# Altium integrated library Maxim Video Switch.IntLib: 41 symbols
Pins are listed as number, name and electrical type; pins without a type are passive.

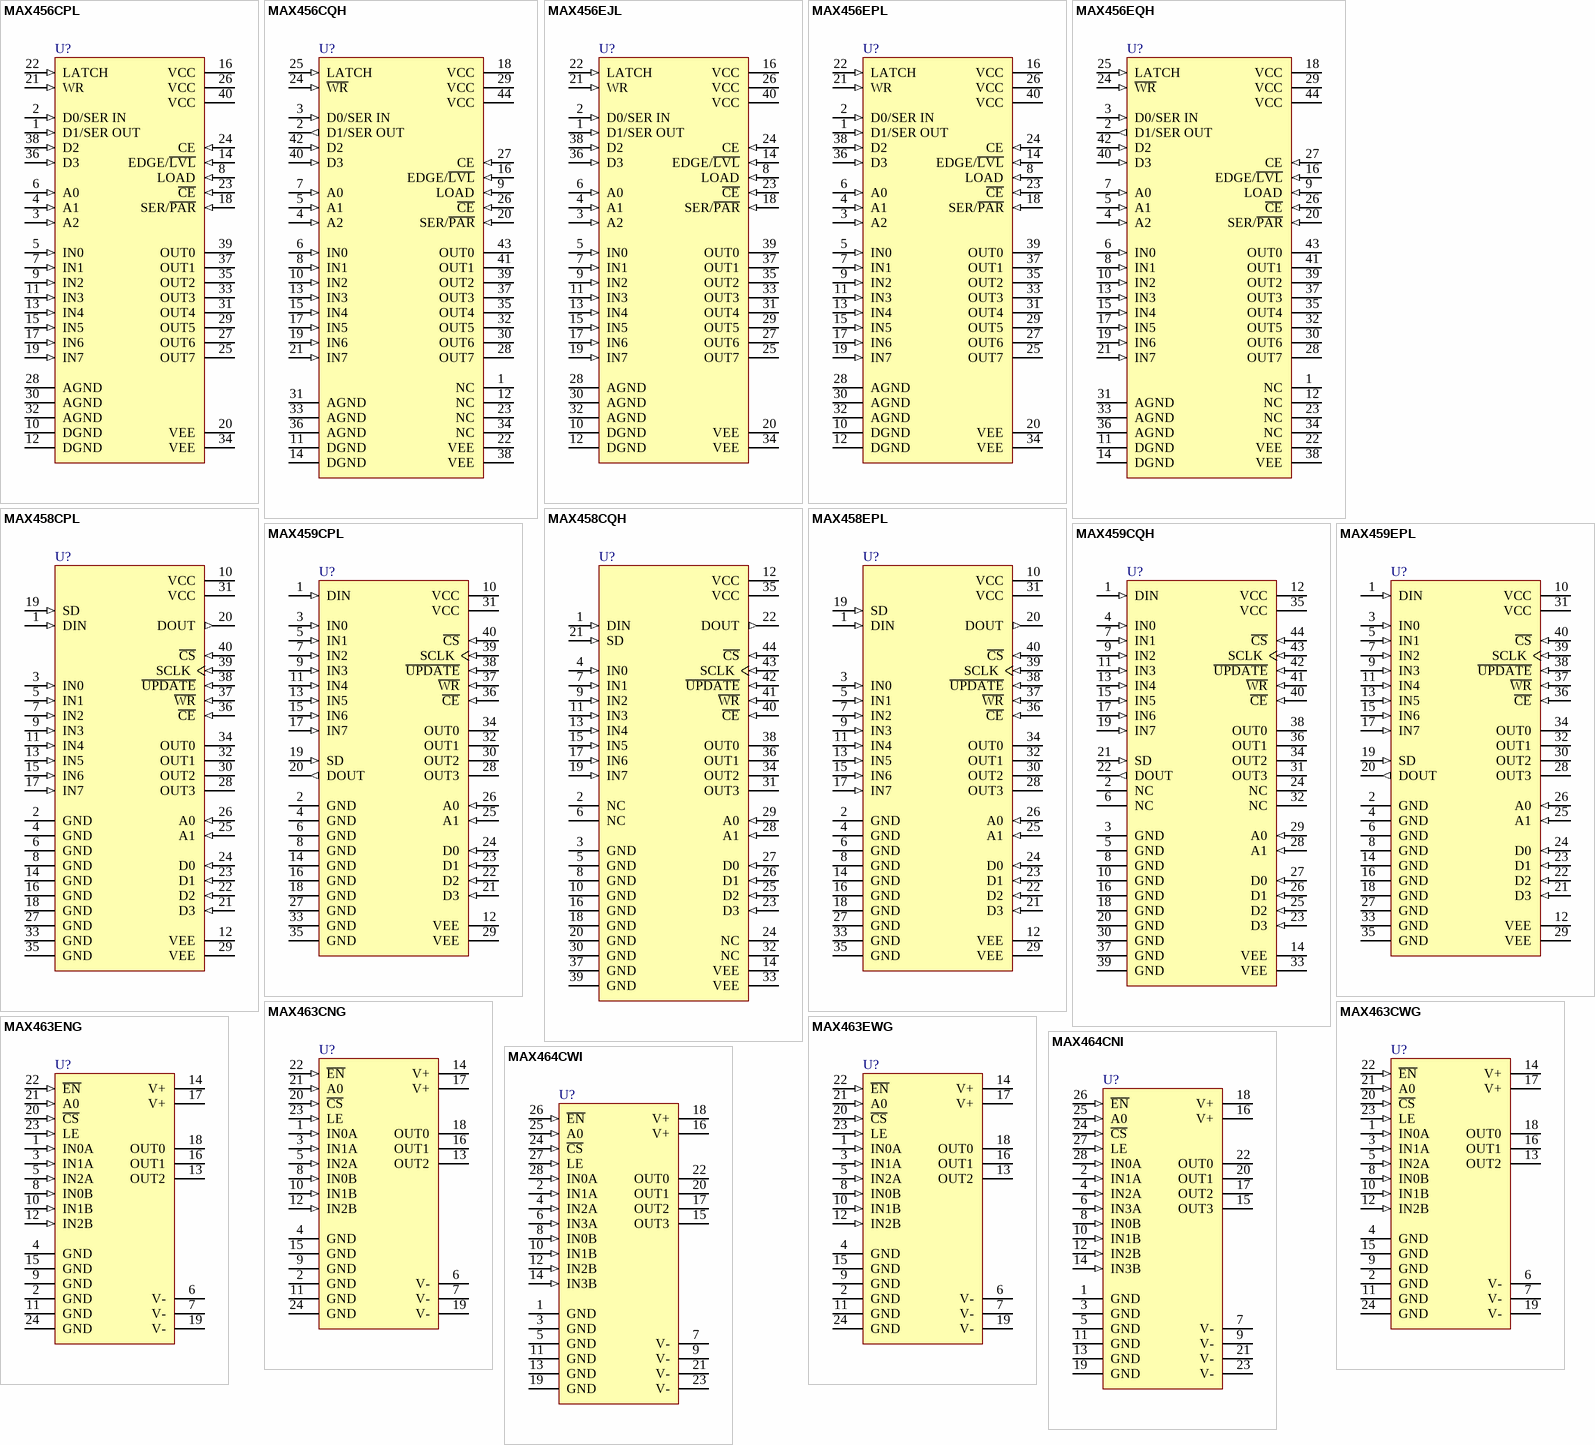
[diagram p0: symbols MAX456CPL to MAX464CWI]

## MAX456CPL
designator U?
8x8 Video Crosspoint Switch; Published: 16-Jan-2001; LatestRevisionDate: 29-May-2009; LatestRevisionNote: Component Body Added.; DatasheetVersion: Feb-1994; PackageVersion: RevA, 21-0044; PackageReference: PL40; Publisher: Altium Limited; PackageDescription: DIP, 40-Pin, Row Spacing 15.24 mm, Pitch 2.54 mm; ComponentLink1Description: Manufacturer Link; ComponentLink1URL: http://www.maxim-ic.com/; ComponentLink2Description: Datasheet; ComponentLink2URL: http://pdfserv.maxim-ic.com/en/ds/MAX456.pdf
footprint PL40 (DIP, 40-Leads, Row Spacing 15.24mm, Pitch 2.54mm, Body 52.08x13.98mm)
3D model PL40 (DIP, 40-Pin, Row Spacing 15.24 mm, Pitch 2.54 mm)
pins: 1 D1/SER OUT (in), 2 D0/SER IN (in), 3 A2 (in), 4 A1 (in), 5 IN0 (in), 6 A0 (in), 7 IN1 (in), 8 LOAD (in), 9 IN2 (in), 10 DGND (power), 11 IN3 (in), 12 DGND (power), 13 IN4 (in), 14 EDGE/~{LVL} (in), 15 IN5 (in), 16 VCC (power), 17 IN6 (in), 18 SER/~{PAR} (in), 19 IN7 (in), 20 VEE (power), 21 WR (in), 22 LATCH (in), 23 ~{CE} (in), 24 CE (in), 25 OUT7 (hiz), 26 VCC (power), 27 OUT6 (hiz), 28 AGND (power), 29 OUT5 (hiz), 30 AGND (power), 31 OUT4 (hiz), 32 AGND (power), 33 OUT3 (hiz), 34 VEE (power), 35 OUT2 (hiz), 36 D3 (in), 37 OUT1 (hiz), 38 D2 (in), 39 OUT0 (hiz), 40 VCC (power)

## MAX456CQH
designator U?
8x8 Video Crosspoint Switch; Published: 16-Jan-2001; LatestRevisionDate: 13-Apr-2006; LatestRevisionNote: IPC-7351 Footprint Added.; DatasheetVersion: Feb-1994; PackageReference: PLCC44; Publisher: Altium Limited; PackageDescription: 44-Pin Leaded Chip Carrier 1.27 mm Pitch; Code_IPC: PLCC-44; ComponentLink1Description: Manufacturer Link; ComponentLink1URL: http://www.maxim-ic.com/; ComponentLink2Description: Datasheet; ComponentLink2URL: http://pdfserv.maxim-ic.com/en/ds/MAX456.pdf
footprint PLCC44_N (Leaded Chip Carrier, 44-Leads, Body 16.6x16.6mm, Pitch 1.27mm, IPC Medium Density)
footprint PLCC44_L (Leaded Chip Carrier, 44-Leads, Body 16.6x16.6mm, Pitch 1.27mm, IPC High Density)
footprint PLCC44_M (Leaded Chip Carrier, 44-Leads, Body 16.6x16.6mm, Pitch 1.27mm, IPC Low Density)
3D model MAX456-PLCC44 (44-Pin Leaded Chip Carrier 1.27 mm Pitch)
pins: 1 NC, 2 D1/SER OUT (out), 3 D0/SER IN (in), 4 A2 (in), 5 A1 (in), 6 IN0 (in), 7 A0 (in), 8 IN1 (in), 9 LOAD (in), 10 IN2 (in), 11 DGND (power), 12 NC, 13 IN3 (in), 14 DGND (power), 15 IN4 (in), 16 EDGE/~{LVL} (in), 17 IN5 (in), 18 VCC (power), 19 IN6 (in), 20 SER/~{PAR} (in), 21 IN7 (in), 22 VEE (power), 23 NC, 24 ~{WR} (in), 25 LATCH (in), 26 ~{CE} (in), 27 CE (in), 28 OUT7 (hiz), 29 VCC (power), 30 OUT6 (hiz), 31 AGND (power), 32 OUT5 (hiz), 33 AGND (power), 34 NC, 35 OUT4 (hiz), 36 AGND (power), 37 OUT3 (hiz), 38 VEE (power), 39 OUT2 (hiz), 40 D3 (in), 41 OUT1 (hiz), 42 D2 (in), 43 OUT0 (hiz), 44 VCC (power)

## MAX456EJL
designator U?
8x8 Video Crosspoint Switch; Published: 16-Jan-2001; LatestRevisionDate: 29-May-2009; LatestRevisionNote: Component Body Added.; DatasheetVersion: Feb-1994; PackageReference: JL40A; Publisher: Altium Limited; PackageDescription: DIP, 40-Pin, Row Spacing 15.24 mm, Pitch 2.54 mm; Code_JEDEC: MS-011-AC; ComponentLink1Description: Manufacturer Link; ComponentLink1URL: http://www.maxim-ic.com/; ComponentLink2Description: Datasheet; ComponentLink2URL: http://pdfserv.maxim-ic.com/en/ds/MAX456.pdf
footprint JL40A (DIP, 40-Leads, Row Spacing 15.24mm, Pitch 2.54mm, Body 52.28x14.35mm)
3D model JL40A (DIP, 40-Pin, Row Spacing 15.24 mm, Pitch 2.54 mm)
pins: 1 D1/SER OUT (in), 2 D0/SER IN (in), 3 A2 (in), 4 A1 (in), 5 IN0 (in), 6 A0 (in), 7 IN1 (in), 8 LOAD (in), 9 IN2 (in), 10 DGND (power), 11 IN3 (in), 12 DGND (power), 13 IN4 (in), 14 EDGE/~{LVL} (in), 15 IN5 (in), 16 VCC (power), 17 IN6 (in), 18 SER/~{PAR} (in), 19 IN7 (in), 20 VEE (power), 21 WR (in), 22 LATCH (in), 23 ~{CE} (in), 24 CE (in), 25 OUT7 (hiz), 26 VCC (power), 27 OUT6 (hiz), 28 AGND (power), 29 OUT5 (hiz), 30 AGND (power), 31 OUT4 (hiz), 32 AGND (power), 33 OUT3 (hiz), 34 VEE (power), 35 OUT2 (hiz), 36 D3 (in), 37 OUT1 (hiz), 38 D2 (in), 39 OUT0 (hiz), 40 VCC (power)

## MAX456EPL
designator U?
8x8 Video Crosspoint Switch; Published: 16-Jan-2001; LatestRevisionDate: 29-May-2009; LatestRevisionNote: Component Body Added.; DatasheetVersion: Feb-1994; PackageVersion: RevA, 21-0044; PackageReference: PL40; Publisher: Altium Limited; PackageDescription: DIP, 40-Pin, Row Spacing 15.24 mm, Pitch 2.54 mm; ComponentLink1Description: Manufacturer Link; ComponentLink1URL: http://www.maxim-ic.com/; ComponentLink2Description: Datasheet; ComponentLink2URL: http://pdfserv.maxim-ic.com/en/ds/MAX456.pdf
footprint PL40 (DIP, 40-Leads, Row Spacing 15.24mm, Pitch 2.54mm, Body 52.08x13.98mm)
3D model PL40 (DIP, 40-Pin, Row Spacing 15.24 mm, Pitch 2.54 mm)
pins: 1 D1/SER OUT (in), 2 D0/SER IN (in), 3 A2 (in), 4 A1 (in), 5 IN0 (in), 6 A0 (in), 7 IN1 (in), 8 LOAD (in), 9 IN2 (in), 10 DGND (power), 11 IN3 (in), 12 DGND (power), 13 IN4 (in), 14 EDGE/~{LVL} (in), 15 IN5 (in), 16 VCC (power), 17 IN6 (in), 18 SER/~{PAR} (in), 19 IN7 (in), 20 VEE (power), 21 WR (in), 22 LATCH (in), 23 ~{CE} (in), 24 CE (in), 25 OUT7 (hiz), 26 VCC (power), 27 OUT6 (hiz), 28 AGND (power), 29 OUT5 (hiz), 30 AGND (power), 31 OUT4 (hiz), 32 AGND (power), 33 OUT3 (hiz), 34 VEE (power), 35 OUT2 (hiz), 36 D3 (in), 37 OUT1 (hiz), 38 D2 (in), 39 OUT0 (hiz), 40 VCC (power)

## MAX456EQH
designator U?
8x8 Video Crosspoint Switch; Published: 16-Jan-2001; LatestRevisionDate: 13-Apr-2006; LatestRevisionNote: IPC-7351 Footprint Added.; DatasheetVersion: Feb-1994; PackageReference: PLCC44; Publisher: Altium Limited; PackageDescription: 44-Pin Leaded Chip Carrier 1.27 mm Pitch; Code_IPC: PLCC-44; ComponentLink1Description: Manufacturer Link; ComponentLink1URL: http://www.maxim-ic.com/; ComponentLink2Description: Datasheet; ComponentLink2URL: http://pdfserv.maxim-ic.com/en/ds/MAX456.pdf
footprint PLCC44_N (Leaded Chip Carrier, 44-Leads, Body 16.6x16.6mm, Pitch 1.27mm, IPC Medium Density)
footprint PLCC44_L (Leaded Chip Carrier, 44-Leads, Body 16.6x16.6mm, Pitch 1.27mm, IPC High Density)
footprint PLCC44_M (Leaded Chip Carrier, 44-Leads, Body 16.6x16.6mm, Pitch 1.27mm, IPC Low Density)
3D model MAX456-PLCC44 (44-Pin Leaded Chip Carrier 1.27 mm Pitch)
pins: 1 NC, 2 D1/SER OUT (out), 3 D0/SER IN (in), 4 A2 (in), 5 A1 (in), 6 IN0 (in), 7 A0 (in), 8 IN1 (in), 9 LOAD (in), 10 IN2 (in), 11 DGND (power), 12 NC, 13 IN3 (in), 14 DGND (power), 15 IN4 (in), 16 EDGE/~{LVL} (in), 17 IN5 (in), 18 VCC (power), 19 IN6 (in), 20 SER/~{PAR} (in), 21 IN7 (in), 22 VEE (power), 23 NC, 24 ~{WR} (in), 25 LATCH (in), 26 ~{CE} (in), 27 CE (in), 28 OUT7 (hiz), 29 VCC (power), 30 OUT6 (hiz), 31 AGND (power), 32 OUT5 (hiz), 33 AGND (power), 34 NC, 35 OUT4 (hiz), 36 AGND (power), 37 OUT3 (hiz), 38 VEE (power), 39 OUT2 (hiz), 40 D3 (in), 41 OUT1 (hiz), 42 D2 (in), 43 OUT0 (hiz), 44 VCC (power)

## MAX458CPL
designator U?
8x4 Video Crosspoint Switch with Buffers; Published: 16-Jan-2001; LatestRevisionDate: 29-May-2009; LatestRevisionNote: Component Body Added.; DatasheetVersion: Apr-1995; PackageVersion: RevA, 21-0044; PackageReference: PL40; Publisher: Altium Limited; PackageDescription: DIP, 40-Pin, Row Spacing 15.24 mm, Pitch 2.54 mm; ComponentLink1Description: Manufacturer Link; ComponentLink1URL: http://www.maxim-ic.com/; ComponentLink2Description: Datasheet; ComponentLink2URL: http://pdfserv.maxim-ic.com/en/ds/MAX458-MAX459.pdf
footprint PL40 (DIP, 40-Leads, Row Spacing 15.24mm, Pitch 2.54mm, Body 52.08x13.98mm)
3D model PL40 (DIP, 40-Pin, Row Spacing 15.24 mm, Pitch 2.54 mm)
pins: 1 DIN (in), 2 GND (power), 3 IN0 (in), 4 GND (power), 5 IN1 (in), 6 GND (power), 7 IN2 (in), 8 GND (power), 9 IN3 (in), 10 VCC (power), 11 IN4 (in), 12 VEE (power), 13 IN5 (in), 14 GND (power), 15 IN6 (in), 16 GND (power), 17 IN7 (in), 18 GND (power), 19 SD (in), 20 DOUT (out), 21 D3 (in), 22 D2 (in), 23 D1 (in), 24 D0 (in), 25 A1 (in), 26 A0 (in), 27 GND (power), 28 OUT3 (hiz), 29 VEE (power), 30 OUT2 (hiz), 31 VCC (power), 32 OUT1 (hiz), 33 GND (power), 34 OUT0 (hiz), 35 GND (power), 36 ~{CE} (in), 37 ~{WR} (in), 38 ~{UPDATE} (in), 39 SCLK (in), 40 ~{CS} (in)

## MAX458CQH
designator U?
8x4 Video Crosspoint Switch with Buffers; Published: 16-Jan-2001; LatestRevisionDate: 13-Apr-2006; LatestRevisionNote: IPC-7351 Footprint Added.; DatasheetVersion: Apr-1995; PackageReference: PLCC44; Publisher: Altium Limited; PackageDescription: 44-Pin Leaded Chip Carrier 1.27 mm Pitch; Code_IPC: PLCC-44; ComponentLink1Description: Manufacturer Link; ComponentLink1URL: http://www.maxim-ic.com/; ComponentLink2Description: Datasheet; ComponentLink2URL: http://pdfserv.maxim-ic.com/en/ds/MAX458-MAX459.pdf
footprint PLCC44_N (Leaded Chip Carrier, 44-Leads, Body 16.6x16.6mm, Pitch 1.27mm, IPC Medium Density)
footprint PLCC44_L (Leaded Chip Carrier, 44-Leads, Body 16.6x16.6mm, Pitch 1.27mm, IPC High Density)
footprint PLCC44_M (Leaded Chip Carrier, 44-Leads, Body 16.6x16.6mm, Pitch 1.27mm, IPC Low Density)
3D model MAX458-PLCC44 (44-Pin Leaded Chip Carrier 1.27 mm Pitch)
pins: 1 DIN (in), 2 NC, 3 GND (power), 4 IN0 (in), 5 GND (power), 6 NC, 7 IN1 (in), 8 GND (power), 9 IN2 (in), 10 GND (power), 11 IN3 (in), 12 VCC (power), 13 IN4 (in), 14 VEE (power), 15 IN5 (in), 16 GND (power), 17 IN6 (in), 18 GND (power), 19 IN7 (in), 20 GND (power), 21 SD (in), 22 DOUT (out), 23 D3 (in), 24 NC, 25 D2 (in), 26 D1 (in), 27 D0 (in), 28 A1 (in), 29 A0 (in), 30 GND (power), 31 OUT3 (hiz), 32 NC, 33 VEE (power), 34 OUT2 (hiz), 35 VCC (power), 36 OUT1 (hiz), 37 GND (power), 38 OUT0 (hiz), 39 GND (power), 40 ~{CE} (in), 41 ~{WR} (in), 42 ~{UPDATE} (in), 43 SCLK (in), 44 ~{CS} (in)

## MAX458EPL
designator U?
8x4 Video Crosspoint Switch with Buffers; Published: 16-Jan-2001; LatestRevisionDate: 29-May-2009; LatestRevisionNote: Component Body Added.; DatasheetVersion: Apr-1995; PackageVersion: RevA, 21-0044; PackageReference: PL40; Publisher: Altium Limited; PackageDescription: DIP, 40-Pin, Row Spacing 15.24 mm, Pitch 2.54 mm; ComponentLink1Description: Manufacturer Link; ComponentLink1URL: http://www.maxim-ic.com/; ComponentLink2Description: Datasheet; ComponentLink2URL: http://pdfserv.maxim-ic.com/en/ds/MAX458-MAX459.pdf
footprint PL40 (DIP, 40-Leads, Row Spacing 15.24mm, Pitch 2.54mm, Body 52.08x13.98mm)
3D model PL40 (DIP, 40-Pin, Row Spacing 15.24 mm, Pitch 2.54 mm)
pins: 1 DIN (in), 2 GND (power), 3 IN0 (in), 4 GND (power), 5 IN1 (in), 6 GND (power), 7 IN2 (in), 8 GND (power), 9 IN3 (in), 10 VCC (power), 11 IN4 (in), 12 VEE (power), 13 IN5 (in), 14 GND (power), 15 IN6 (in), 16 GND (power), 17 IN7 (in), 18 GND (power), 19 SD (in), 20 DOUT (out), 21 D3 (in), 22 D2 (in), 23 D1 (in), 24 D0 (in), 25 A1 (in), 26 A0 (in), 27 GND (power), 28 OUT3 (hiz), 29 VEE (power), 30 OUT2 (hiz), 31 VCC (power), 32 OUT1 (hiz), 33 GND (power), 34 OUT0 (hiz), 35 GND (power), 36 ~{CE} (in), 37 ~{WR} (in), 38 ~{UPDATE} (in), 39 SCLK (in), 40 ~{CS} (in)

## MAX459CPL
designator U?
8x4 Video Crosspoint Switch with Buffers; Published: 16-Jan-2001; LatestRevisionDate: 29-May-2009; LatestRevisionNote: Component Body Added.; DatasheetVersion: Apr-1995; PackageVersion: RevA, 21-0044; PackageReference: PL40; Publisher: Altium Limited; PackageDescription: DIP, 40-Pin, Row Spacing 15.24 mm, Pitch 2.54 mm; ComponentLink1Description: Manufacturer Link; ComponentLink1URL: http://www.maxim-ic.com/; ComponentLink2Description: Datasheet; ComponentLink2URL: http://pdfserv.maxim-ic.com/en/ds/MAX458-MAX459.pdf
footprint PL40 (DIP, 40-Leads, Row Spacing 15.24mm, Pitch 2.54mm, Body 52.08x13.98mm)
3D model PL40 (DIP, 40-Pin, Row Spacing 15.24 mm, Pitch 2.54 mm)
pins: 1 DIN (in), 2 GND (power), 3 IN0 (in), 4 GND (power), 5 IN1 (in), 6 GND (power), 7 IN2 (in), 8 GND (power), 9 IN3 (in), 10 VCC (power), 11 IN4 (in), 12 VEE (power), 13 IN5 (in), 14 GND (power), 15 IN6 (in), 16 GND (power), 17 IN7 (in), 18 GND (power), 19 SD (in), 20 DOUT (out), 21 D3 (in), 22 D2 (in), 23 D1 (in), 24 D0 (in), 25 A1 (in), 26 A0 (in), 27 GND (power), 28 OUT3 (hiz), 29 VEE (power), 30 OUT2 (hiz), 31 VCC (power), 32 OUT1 (hiz), 33 GND (power), 34 OUT0 (hiz), 35 GND (power), 36 ~{CE} (in), 37 ~{WR} (in), 38 ~{UPDATE} (in), 39 SCLK (in), 40 ~{CS} (in)

## MAX459CQH
designator U?
8x4 Video Crosspoint Switch with Buffers; Published: 16-Jan-2001; LatestRevisionDate: 13-Apr-2006; LatestRevisionNote: IPC-7351 Footprint Added.; DatasheetVersion: Apr-1995; PackageReference: PLCC44; Publisher: Altium Limited; PackageDescription: 44-Pin Leaded Chip Carrier 1.27 mm Pitch; Code_IPC: PLCC-44; ComponentLink1Description: Manufacturer Link; ComponentLink1URL: http://www.maxim-ic.com/; ComponentLink2Description: Datasheet; ComponentLink2URL: http://pdfserv.maxim-ic.com/en/ds/MAX458-MAX459.pdf
footprint PLCC44_N (Leaded Chip Carrier, 44-Leads, Body 16.6x16.6mm, Pitch 1.27mm, IPC Medium Density)
footprint PLCC44_L (Leaded Chip Carrier, 44-Leads, Body 16.6x16.6mm, Pitch 1.27mm, IPC High Density)
footprint PLCC44_M (Leaded Chip Carrier, 44-Leads, Body 16.6x16.6mm, Pitch 1.27mm, IPC Low Density)
3D model MAX459-PLCC44 (44-Pin Leaded Chip Carrier 1.27 mm Pitch)
pins: 1 DIN (in), 2 NC, 3 GND (power), 4 IN0 (in), 5 GND (power), 6 NC, 7 IN1 (in), 8 GND (power), 9 IN2 (in), 10 GND (power), 11 IN3 (in), 12 VCC (power), 13 IN4 (in), 14 VEE (power), 15 IN5 (in), 16 GND (power), 17 IN6 (in), 18 GND (power), 19 IN7 (in), 20 GND (power), 21 SD (in), 22 DOUT (out), 23 D3 (in), 24 NC, 25 D2 (in), 26 D1 (in), 27 D0 (in), 28 A1 (in), 29 A0 (in), 30 GND (power), 31 OUT3 (hiz), 32 NC, 33 VEE (power), 34 OUT2 (hiz), 35 VCC (power), 36 OUT1 (hiz), 37 GND (power), 38 OUT0 (hiz), 39 GND (power), 40 ~{CE} (in), 41 ~{WR} (in), 42 ~{UPDATE} (in), 43 SCLK (in), 44 ~{CS} (in)

## MAX459EPL
designator U?
8x4 Video Crosspoint Switch with Buffers; Published: 16-Jan-2001; LatestRevisionDate: 29-May-2009; LatestRevisionNote: Component Body Added.; DatasheetVersion: Apr-1995; PackageVersion: RevA, 21-0044; PackageReference: PL40; Publisher: Altium Limited; PackageDescription: DIP, 40-Pin, Row Spacing 15.24 mm, Pitch 2.54 mm; ComponentLink1Description: Manufacturer Link; ComponentLink1URL: http://www.maxim-ic.com/; ComponentLink2Description: Datasheet; ComponentLink2URL: http://pdfserv.maxim-ic.com/en/ds/MAX458-MAX459.pdf
footprint PL40 (DIP, 40-Leads, Row Spacing 15.24mm, Pitch 2.54mm, Body 52.08x13.98mm)
3D model PL40 (DIP, 40-Pin, Row Spacing 15.24 mm, Pitch 2.54 mm)
pins: 1 DIN (in), 2 GND (power), 3 IN0 (in), 4 GND (power), 5 IN1 (in), 6 GND (power), 7 IN2 (in), 8 GND (power), 9 IN3 (in), 10 VCC (power), 11 IN4 (in), 12 VEE (power), 13 IN5 (in), 14 GND (power), 15 IN6 (in), 16 GND (power), 17 IN7 (in), 18 GND (power), 19 SD (in), 20 DOUT (out), 21 D3 (in), 22 D2 (in), 23 D1 (in), 24 D0 (in), 25 A1 (in), 26 A0 (in), 27 GND (power), 28 OUT3 (hiz), 29 VEE (power), 30 OUT2 (hiz), 31 VCC (power), 32 OUT1 (hiz), 33 GND (power), 34 OUT0 (hiz), 35 GND (power), 36 ~{CE} (in), 37 ~{WR} (in), 38 ~{UPDATE} (in), 39 SCLK (in), 40 ~{CS} (in)

## MAX463CNG
designator U?
Two-Channel, Triple RGB Video Switch and Buffer; Published: 16-Jan-2001; LatestRevisionDate: 29-May-2009; LatestRevisionNote: Component Body Added.; DatasheetVersion: Jun-1994; PackageVersion: Aug-2000; PackageReference: NG24; Publisher: Altium Limited; PackageDescription: DIP, 24-Pin, Row Spacing 7.62 mm, Pitch 2.54 mm; Code_JEDEC: MS-001-AF; ComponentLink1Description: Manufacturer Link; ComponentLink1URL: http://www.maxim-ic.com/
footprint NG24 (DIP, 24-Leads, Row Spacing 7.62mm, Pitch 2.54mm, Body 30.55x7.24mm)
3D model NG24 (DIP, 24-Pin, Row Spacing 7.62 mm, Pitch 2.54 mm)
pins: 1 IN0A (in), 2 GND (power), 3 IN1A (in), 4 GND (power), 5 IN2A (in), 6 V- (power), 7 V- (power), 8 IN0B (in), 9 GND (power), 10 IN1B (in), 11 GND (power), 12 IN2B (in), 13 OUT2 (hiz), 14 V+ (power), 15 GND (power), 16 OUT1 (hiz), 17 V+ (power), 18 OUT0 (hiz), 19 V- (power), 20 ~{CS} (in), 21 A0 (in), 22 ~{EN} (in), 23 LE (in), 24 GND (power)

## MAX463CWG
designator U?
Two-Channel, Triple RGB Video Switch and Buffer; Published: 16-Jan-2001; LatestRevisionDate: 13-Apr-2006; LatestRevisionNote: IPC-7351 Footprint Added.; DatasheetVersion: Jun-1994; PackageReference: WSO24; Publisher: Altium Limited; PackageDescription: 24-Pin Small Outline Integrated Circuit 1.27 mm Pitch; ComponentLink1Description: Manufacturer Link; ComponentLink1URL: http://www.maxim-ic.com/
footprint WSO24_N (SOIC, 24-Leads, Body 15.4x7.5mm, Pitch 1.27mm, IPC Medium Density)
footprint WSO24_L (SOIC, 24-Leads, Body 15.4x7.5mm, Pitch 1.27mm, IPC High Density)
footprint WSO24_M (SOIC, 24-Leads, Body 15.4x7.5mm, Pitch 1.27mm, IPC Low Density)
3D model WSO24 (24-Pin Small Outline Integrated Circuit 1.27 mm Pitch)
pins: 1 IN0A (in), 2 GND (power), 3 IN1A (in), 4 GND (power), 5 IN2A (in), 6 V- (power), 7 V- (power), 8 IN0B (in), 9 GND (power), 10 IN1B (in), 11 GND (power), 12 IN2B (in), 13 OUT2 (hiz), 14 V+ (power), 15 GND (power), 16 OUT1 (hiz), 17 V+ (power), 18 OUT0 (hiz), 19 V- (power), 20 ~{CS} (in), 21 A0 (in), 22 ~{EN} (in), 23 LE (in), 24 GND (power)

## MAX463ENG
designator U?
Two-Channel, Triple RGB Video Switch and Buffer; Published: 16-Jan-2001; LatestRevisionDate: 29-May-2009; LatestRevisionNote: Component Body Added.; DatasheetVersion: Jun-1994; PackageVersion: Aug-2000; PackageReference: NG24; Publisher: Altium Limited; PackageDescription: DIP, 24-Pin, Row Spacing 7.62 mm, Pitch 2.54 mm; Code_JEDEC: MS-001-AF; ComponentLink1Description: Manufacturer Link; ComponentLink1URL: http://www.maxim-ic.com/
footprint NG24 (DIP, 24-Leads, Row Spacing 7.62mm, Pitch 2.54mm, Body 30.55x7.24mm)
3D model NG24 (DIP, 24-Pin, Row Spacing 7.62 mm, Pitch 2.54 mm)
pins: 1 IN0A (in), 2 GND (power), 3 IN1A (in), 4 GND (power), 5 IN2A (in), 6 V- (power), 7 V- (power), 8 IN0B (in), 9 GND (power), 10 IN1B (in), 11 GND (power), 12 IN2B (in), 13 OUT2 (hiz), 14 V+ (power), 15 GND (power), 16 OUT1 (hiz), 17 V+ (power), 18 OUT0 (hiz), 19 V- (power), 20 ~{CS} (in), 21 A0 (in), 22 ~{EN} (in), 23 LE (in), 24 GND (power)

## MAX463EWG
designator U?
Two-Channel, Triple RGB Video Switch and Buffer; Published: 16-Jan-2001; LatestRevisionDate: 13-Apr-2006; LatestRevisionNote: IPC-7351 Footprint Added.; DatasheetVersion: Jun-1994; PackageReference: WSO24; Publisher: Altium Limited; PackageDescription: 24-Pin Small Outline Integrated Circuit 1.27 mm Pitch; ComponentLink1Description: Manufacturer Link; ComponentLink1URL: http://www.maxim-ic.com/
footprint WSO24_N (SOIC, 24-Leads, Body 15.4x7.5mm, Pitch 1.27mm, IPC Medium Density)
footprint WSO24_L (SOIC, 24-Leads, Body 15.4x7.5mm, Pitch 1.27mm, IPC High Density)
footprint WSO24_M (SOIC, 24-Leads, Body 15.4x7.5mm, Pitch 1.27mm, IPC Low Density)
3D model WSO24 (24-Pin Small Outline Integrated Circuit 1.27 mm Pitch)
pins: 1 IN0A (in), 2 GND (power), 3 IN1A (in), 4 GND (power), 5 IN2A (in), 6 V- (power), 7 V- (power), 8 IN0B (in), 9 GND (power), 10 IN1B (in), 11 GND (power), 12 IN2B (in), 13 OUT2 (hiz), 14 V+ (power), 15 GND (power), 16 OUT1 (hiz), 17 V+ (power), 18 OUT0 (hiz), 19 V- (power), 20 ~{CS} (in), 21 A0 (in), 22 ~{EN} (in), 23 LE (in), 24 GND (power)

## MAX464CNI
designator U?
Two-Channel, Quad RGB Video Switch and Buffer; Published: 16-Jan-2001; LatestRevisionDate: 29-May-2009; LatestRevisionNote: Component Body Added.; DatasheetVersion: Jun-1994; PackageVersion: Aug-2000; PackageReference: NI28; Publisher: Altium Limited; PackageDescription: DIP, 28-Pin, Row Spacing 7.62 mm, Pitch 2.54 mm; ComponentLink1Description: Manufacturer Link; ComponentLink1URL: http://www.maxim-ic.com/
footprint NI28 (DIP, 28-Leads, Row Spacing 7.62mm, Pitch 2.54mm, Body 34.8x7.24mm)
3D model NI28 (DIP, 28-Pin, Row Spacing 7.62 mm, Pitch 2.54 mm)
pins: 1 GND (power), 2 IN1A (in), 3 GND (power), 4 IN2A (in), 5 GND (power), 6 IN3A (in), 7 V- (power), 8 IN0B (in), 9 V- (power), 10 IN1B (in), 11 GND (power), 12 IN2B (in), 13 GND (power), 14 IN3B (in), 15 OUT3 (hiz), 16 V+ (power), 17 OUT2 (hiz), 18 V+ (power), 19 GND (power), 20 OUT1 (hiz), 21 V- (power), 22 OUT0 (hiz), 23 V- (power), 24 ~{CS} (in), 25 A0 (in), 26 ~{EN} (in), 27 LE (in), 28 IN0A (in)

## MAX464CWI
designator U?
Two-Channel, Quad RGB Video Switch and Buffer; Published: 16-Jan-2001; LatestRevisionDate: 13-Apr-2006; LatestRevisionNote: IPC-7351 Footprint Added.; DatasheetVersion: Jun-1994; PackageReference: WSO28; Publisher: Altium Limited; PackageDescription: 28-Pin Small Outline Integrated Circuit 1.27 mm Pitch; ComponentLink1Description: Manufacturer Link; ComponentLink1URL: http://www.maxim-ic.com/
footprint WSO28_N (SOIC, 28-Leads, Body 17.9x7.5mm, Pitch 1.27mm, IPC Medium Density)
footprint WSO28_L (SOIC, 28-Leads, Body 17.9x7.5mm, Pitch 1.27mm, IPC High Density)
footprint WSO28_M (SOIC, 28-Leads, Body 17.9x7.5mm, Pitch 1.27mm, IPC Low Density)
3D model WSO28 (28-Pin Small Outline Integrated Circuit 1.27 mm Pitch)
pins: 1 GND (power), 2 IN1A (in), 3 GND (power), 4 IN2A (in), 5 GND (power), 6 IN3A (in), 7 V- (power), 8 IN0B (in), 9 V- (power), 10 IN1B (in), 11 GND (power), 12 IN2B (in), 13 GND (power), 14 IN3B (in), 15 OUT3 (hiz), 16 V+ (power), 17 OUT2 (hiz), 18 V+ (power), 19 GND (power), 20 OUT1 (hiz), 21 V- (power), 22 OUT0 (hiz), 23 V- (power), 24 ~{CS} (in), 25 A0 (in), 26 ~{EN} (in), 27 LE (in), 28 IN0A (in)

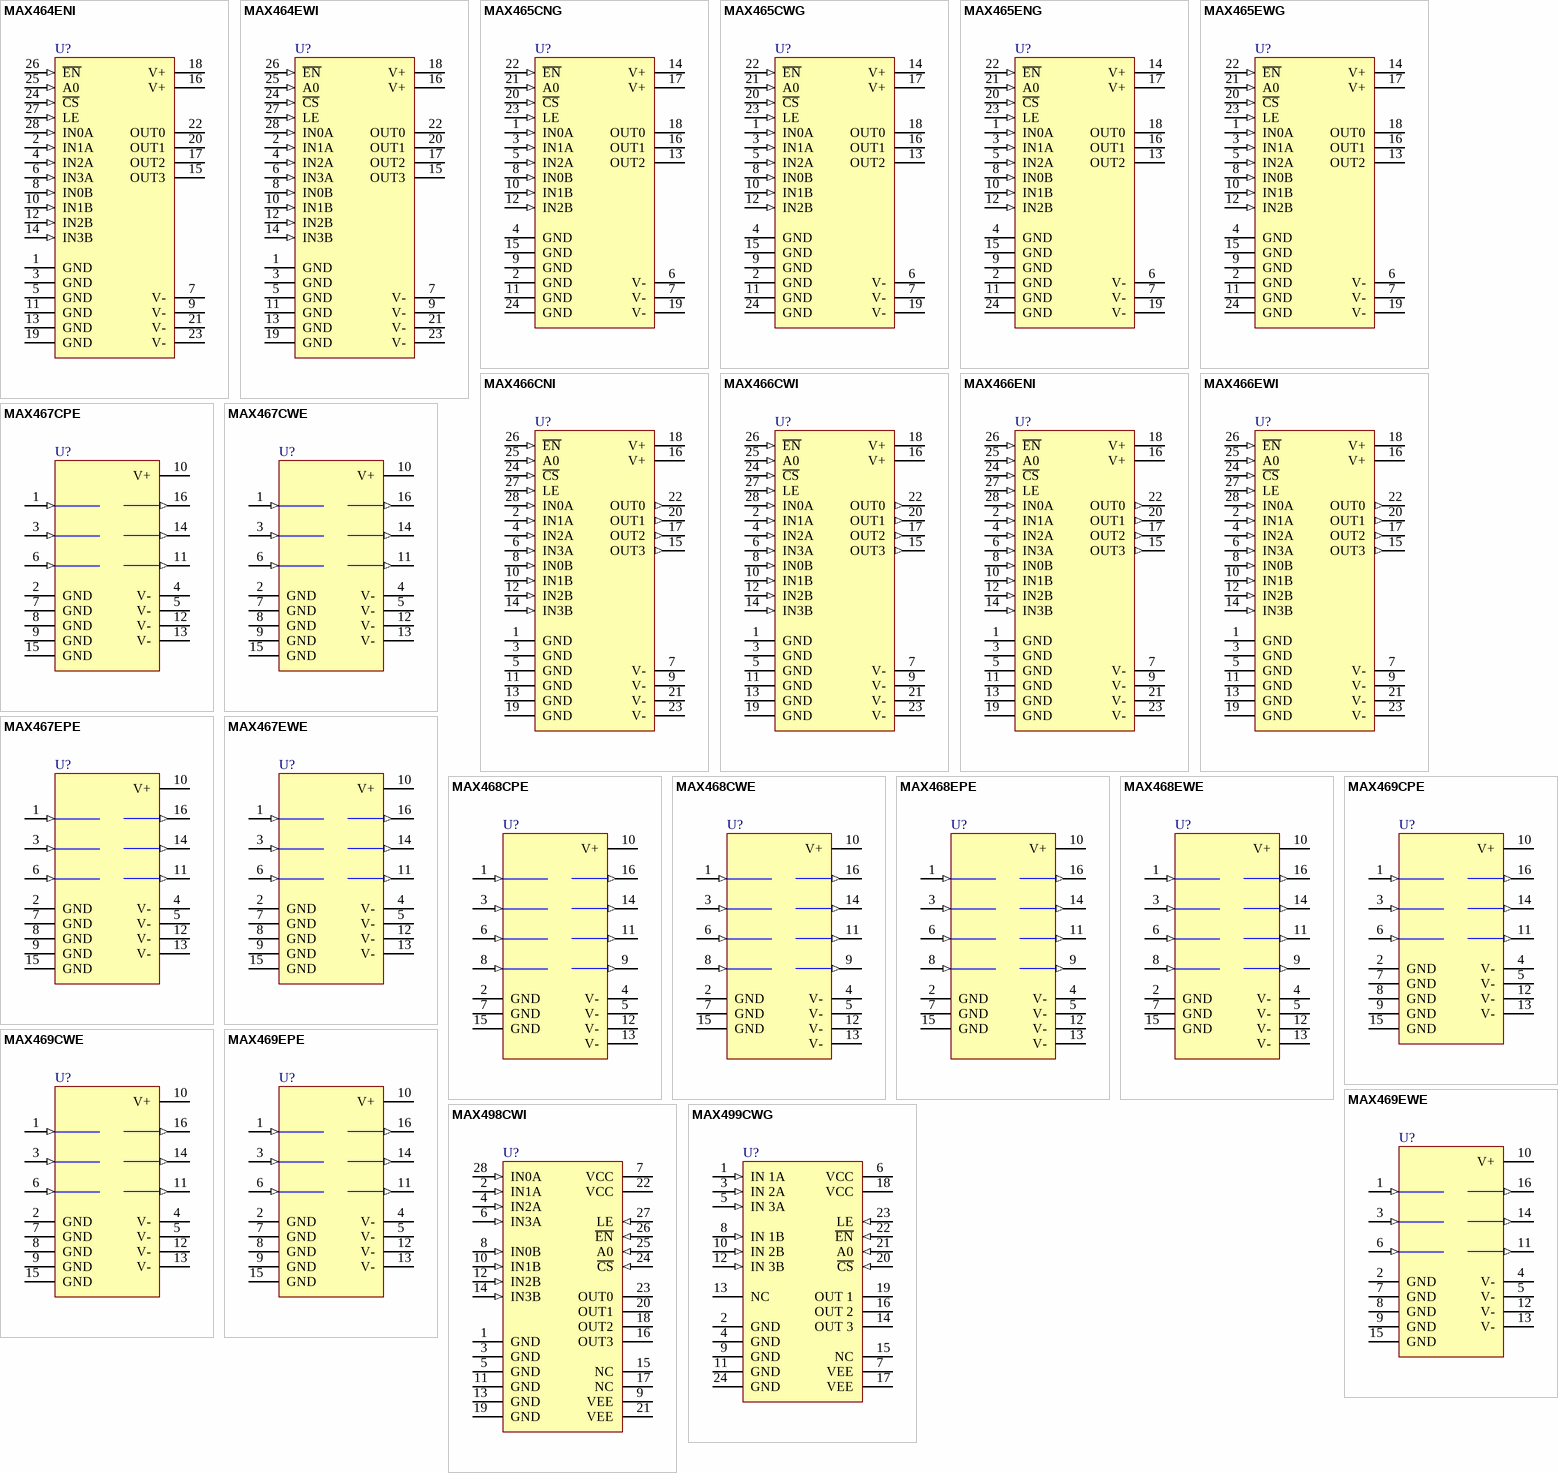
[diagram p1: symbols MAX464ENI to MAX499CWG]

## MAX464ENI
designator U?
Two-Channel, Quad RGB Video Switch and Buffer; Published: 16-Jan-2001; LatestRevisionDate: 29-May-2009; LatestRevisionNote: Component Body Added.; DatasheetVersion: Jun-1994; PackageVersion: Aug-2000; PackageReference: NI28; Publisher: Altium Limited; PackageDescription: DIP, 28-Pin, Row Spacing 7.62 mm, Pitch 2.54 mm; ComponentLink1Description: Manufacturer Link; ComponentLink1URL: http://www.maxim-ic.com/
footprint NI28 (DIP, 28-Leads, Row Spacing 7.62mm, Pitch 2.54mm, Body 34.8x7.24mm)
3D model NI28 (DIP, 28-Pin, Row Spacing 7.62 mm, Pitch 2.54 mm)
pins: 1 GND (power), 2 IN1A (in), 3 GND (power), 4 IN2A (in), 5 GND (power), 6 IN3A (in), 7 V- (power), 8 IN0B (in), 9 V- (power), 10 IN1B (in), 11 GND (power), 12 IN2B (in), 13 GND (power), 14 IN3B (in), 15 OUT3 (hiz), 16 V+ (power), 17 OUT2 (hiz), 18 V+ (power), 19 GND (power), 20 OUT1 (hiz), 21 V- (power), 22 OUT0 (hiz), 23 V- (power), 24 ~{CS} (in), 25 A0 (in), 26 ~{EN} (in), 27 LE (in), 28 IN0A (in)

## MAX464EWI
designator U?
Two-Channel, Quad RGB Video Switch and Buffer; Published: 16-Jan-2001; LatestRevisionDate: 13-Apr-2006; LatestRevisionNote: IPC-7351 Footprint Added.; DatasheetVersion: Jun-1994; PackageReference: WSO28; Publisher: Altium Limited; PackageDescription: 28-Pin Small Outline Integrated Circuit 1.27 mm Pitch; ComponentLink1Description: Manufacturer Link; ComponentLink1URL: http://www.maxim-ic.com/
footprint WSO28_N (SOIC, 28-Leads, Body 17.9x7.5mm, Pitch 1.27mm, IPC Medium Density)
footprint WSO28_L (SOIC, 28-Leads, Body 17.9x7.5mm, Pitch 1.27mm, IPC High Density)
footprint WSO28_M (SOIC, 28-Leads, Body 17.9x7.5mm, Pitch 1.27mm, IPC Low Density)
3D model WSO28 (28-Pin Small Outline Integrated Circuit 1.27 mm Pitch)
pins: 1 GND (power), 2 IN1A (in), 3 GND (power), 4 IN2A (in), 5 GND (power), 6 IN3A (in), 7 V- (power), 8 IN0B (in), 9 V- (power), 10 IN1B (in), 11 GND (power), 12 IN2B (in), 13 GND (power), 14 IN3B (in), 15 OUT3 (hiz), 16 V+ (power), 17 OUT2 (hiz), 18 V+ (power), 19 GND (power), 20 OUT1 (hiz), 21 V- (power), 22 OUT0 (hiz), 23 V- (power), 24 ~{CS} (in), 25 A0 (in), 26 ~{EN} (in), 27 LE (in), 28 IN0A (in)

## MAX465CNG
designator U?
Two-Channel, Triple RGB Video Switch and Buffer; Published: 16-Jan-2001; LatestRevisionDate: 29-May-2009; LatestRevisionNote: Component Body Added.; DatasheetVersion: Jun-1994; PackageVersion: Aug-2000; PackageReference: NG24; Publisher: Altium Limited; PackageDescription: DIP, 24-Pin, Row Spacing 7.62 mm, Pitch 2.54 mm; Code_JEDEC: MS-001-AF; ComponentLink1Description: Manufacturer Link; ComponentLink1URL: http://www.maxim-ic.com/
footprint NG24 (DIP, 24-Leads, Row Spacing 7.62mm, Pitch 2.54mm, Body 30.55x7.24mm)
3D model NG24 (DIP, 24-Pin, Row Spacing 7.62 mm, Pitch 2.54 mm)
pins: 1 IN0A (in), 2 GND (power), 3 IN1A (in), 4 GND (power), 5 IN2A (in), 6 V- (power), 7 V- (power), 8 IN0B (in), 9 GND (power), 10 IN1B (in), 11 GND (power), 12 IN2B (in), 13 OUT2 (hiz), 14 V+ (power), 15 GND (power), 16 OUT1 (hiz), 17 V+ (power), 18 OUT0 (hiz), 19 V- (power), 20 ~{CS} (in), 21 A0 (in), 22 ~{EN} (in), 23 LE (in), 24 GND (power)

## MAX465CWG
designator U?
Two-Channel, Triple RGB Video Switch and Buffer; Published: 16-Jan-2001; LatestRevisionDate: 13-Apr-2006; LatestRevisionNote: IPC-7351 Footprint Added.; DatasheetVersion: Jun-1994; PackageReference: WSO24; Publisher: Altium Limited; PackageDescription: 24-Pin Small Outline Integrated Circuit 1.27 mm Pitch; ComponentLink1Description: Manufacturer Link; ComponentLink1URL: http://www.maxim-ic.com/
footprint WSO24_N (SOIC, 24-Leads, Body 15.4x7.5mm, Pitch 1.27mm, IPC Medium Density)
footprint WSO24_L (SOIC, 24-Leads, Body 15.4x7.5mm, Pitch 1.27mm, IPC High Density)
footprint WSO24_M (SOIC, 24-Leads, Body 15.4x7.5mm, Pitch 1.27mm, IPC Low Density)
3D model WSO24 (24-Pin Small Outline Integrated Circuit 1.27 mm Pitch)
pins: 1 IN0A (in), 2 GND (power), 3 IN1A (in), 4 GND (power), 5 IN2A (in), 6 V- (power), 7 V- (power), 8 IN0B (in), 9 GND (power), 10 IN1B (in), 11 GND (power), 12 IN2B (in), 13 OUT2 (hiz), 14 V+ (power), 15 GND (power), 16 OUT1 (hiz), 17 V+ (power), 18 OUT0 (hiz), 19 V- (power), 20 ~{CS} (in), 21 A0 (in), 22 ~{EN} (in), 23 LE (in), 24 GND (power)

## MAX465ENG
designator U?
Two-Channel, Triple RGB Video Switch and Buffer; Published: 16-Jan-2001; LatestRevisionDate: 29-May-2009; LatestRevisionNote: Component Body Added.; DatasheetVersion: Jun-1994; PackageVersion: Aug-2000; PackageReference: NG24; Publisher: Altium Limited; PackageDescription: DIP, 24-Pin, Row Spacing 7.62 mm, Pitch 2.54 mm; Code_JEDEC: MS-001-AF; ComponentLink1Description: Manufacturer Link; ComponentLink1URL: http://www.maxim-ic.com/
footprint NG24 (DIP, 24-Leads, Row Spacing 7.62mm, Pitch 2.54mm, Body 30.55x7.24mm)
3D model NG24 (DIP, 24-Pin, Row Spacing 7.62 mm, Pitch 2.54 mm)
pins: 1 IN0A (in), 2 GND (power), 3 IN1A (in), 4 GND (power), 5 IN2A (in), 6 V- (power), 7 V- (power), 8 IN0B (in), 9 GND (power), 10 IN1B (in), 11 GND (power), 12 IN2B (in), 13 OUT2 (hiz), 14 V+ (power), 15 GND (power), 16 OUT1 (hiz), 17 V+ (power), 18 OUT0 (hiz), 19 V- (power), 20 ~{CS} (in), 21 A0 (in), 22 ~{EN} (in), 23 LE (in), 24 GND (power)

## MAX465EWG
designator U?
Two-Channel, Triple RGB Video Switch and Buffer; Published: 16-Jan-2001; LatestRevisionDate: 13-Apr-2006; LatestRevisionNote: IPC-7351 Footprint Added.; DatasheetVersion: Jun-1994; PackageReference: WSO24; Publisher: Altium Limited; PackageDescription: 24-Pin Small Outline Integrated Circuit 1.27 mm Pitch; ComponentLink1Description: Manufacturer Link; ComponentLink1URL: http://www.maxim-ic.com/
footprint WSO24_N (SOIC, 24-Leads, Body 15.4x7.5mm, Pitch 1.27mm, IPC Medium Density)
footprint WSO24_L (SOIC, 24-Leads, Body 15.4x7.5mm, Pitch 1.27mm, IPC High Density)
footprint WSO24_M (SOIC, 24-Leads, Body 15.4x7.5mm, Pitch 1.27mm, IPC Low Density)
3D model WSO24 (24-Pin Small Outline Integrated Circuit 1.27 mm Pitch)
pins: 1 IN0A (in), 2 GND (power), 3 IN1A (in), 4 GND (power), 5 IN2A (in), 6 V- (power), 7 V- (power), 8 IN0B (in), 9 GND (power), 10 IN1B (in), 11 GND (power), 12 IN2B (in), 13 OUT2 (hiz), 14 V+ (power), 15 GND (power), 16 OUT1 (hiz), 17 V+ (power), 18 OUT0 (hiz), 19 V- (power), 20 ~{CS} (in), 21 A0 (in), 22 ~{EN} (in), 23 LE (in), 24 GND (power)

## MAX466CNI
designator U?
Two-Channel, Quad RGB Video Switch and Buffer; Published: 16-Jan-2001; LatestRevisionDate: 29-May-2009; LatestRevisionNote: Component Body Added.; DatasheetVersion: Jun-1994; PackageVersion: Aug-2000; PackageReference: NI28; Publisher: Altium Limited; PackageDescription: DIP, 28-Pin, Row Spacing 7.62 mm, Pitch 2.54 mm; ComponentLink1Description: Manufacturer Link; ComponentLink1URL: http://www.maxim-ic.com/
footprint NI28 (DIP, 28-Leads, Row Spacing 7.62mm, Pitch 2.54mm, Body 34.8x7.24mm)
3D model NI28 (DIP, 28-Pin, Row Spacing 7.62 mm, Pitch 2.54 mm)
pins: 1 GND (power), 2 IN1A (in), 3 GND (power), 4 IN2A (in), 5 GND (power), 6 IN3A (in), 7 V- (power), 8 IN0B (in), 9 V- (power), 10 IN1B (in), 11 GND (power), 12 IN2B (in), 13 GND (power), 14 IN3B (in), 15 OUT3 (out), 16 V+ (power), 17 OUT2 (out), 18 V+ (power), 19 GND (power), 20 OUT1 (out), 21 V- (power), 22 OUT0 (out), 23 V- (power), 24 ~{CS} (in), 25 A0 (in), 26 ~{EN} (in), 27 LE (in), 28 IN0A (in)

## MAX466CWI
designator U?
Two-Channel, Quad RGB Video Switch and Buffer; Published: 16-Jan-2001; LatestRevisionDate: 13-Apr-2006; LatestRevisionNote: IPC-7351 Footprint Added.; DatasheetVersion: Jun-1994; PackageReference: WSO28; Publisher: Altium Limited; PackageDescription: 28-Pin Small Outline Integrated Circuit 1.27 mm Pitch; ComponentLink1Description: Manufacturer Link; ComponentLink1URL: http://www.maxim-ic.com/
footprint WSO28_N (SOIC, 28-Leads, Body 17.9x7.5mm, Pitch 1.27mm, IPC Medium Density)
footprint WSO28_L (SOIC, 28-Leads, Body 17.9x7.5mm, Pitch 1.27mm, IPC High Density)
footprint WSO28_M (SOIC, 28-Leads, Body 17.9x7.5mm, Pitch 1.27mm, IPC Low Density)
3D model WSO28 (28-Pin Small Outline Integrated Circuit 1.27 mm Pitch)
pins: 1 GND (power), 2 IN1A (in), 3 GND (power), 4 IN2A (in), 5 GND (power), 6 IN3A (in), 7 V- (power), 8 IN0B (in), 9 V- (power), 10 IN1B (in), 11 GND (power), 12 IN2B (in), 13 GND (power), 14 IN3B (in), 15 OUT3 (out), 16 V+ (power), 17 OUT2 (out), 18 V+ (power), 19 GND (power), 20 OUT1 (out), 21 V- (power), 22 OUT0 (out), 23 V- (power), 24 ~{CS} (in), 25 A0 (in), 26 ~{EN} (in), 27 LE (in), 28 IN0A (in)

## MAX466ENI
designator U?
Two-Channel, Quad RGB Video Switch and Buffer; Published: 16-Jan-2001; LatestRevisionDate: 29-May-2009; LatestRevisionNote: Component Body Added.; DatasheetVersion: Jun-1994; PackageVersion: Aug-2000; PackageReference: NI28; Publisher: Altium Limited; PackageDescription: DIP, 28-Pin, Row Spacing 7.62 mm, Pitch 2.54 mm; ComponentLink1Description: Manufacturer Link; ComponentLink1URL: http://www.maxim-ic.com/
footprint NI28 (DIP, 28-Leads, Row Spacing 7.62mm, Pitch 2.54mm, Body 34.8x7.24mm)
3D model NI28 (DIP, 28-Pin, Row Spacing 7.62 mm, Pitch 2.54 mm)
pins: 1 GND (power), 2 IN1A (in), 3 GND (power), 4 IN2A (in), 5 GND (power), 6 IN3A (in), 7 V- (power), 8 IN0B (in), 9 V- (power), 10 IN1B (in), 11 GND (power), 12 IN2B (in), 13 GND (power), 14 IN3B (in), 15 OUT3 (out), 16 V+ (power), 17 OUT2 (out), 18 V+ (power), 19 GND (power), 20 OUT1 (out), 21 V- (power), 22 OUT0 (out), 23 V- (power), 24 ~{CS} (in), 25 A0 (in), 26 ~{EN} (in), 27 LE (in), 28 IN0A (in)

## MAX466EWI
designator U?
Two-Channel, Quad RGB Video Switch and Buffer; Published: 16-Jan-2001; LatestRevisionDate: 13-Apr-2006; LatestRevisionNote: IPC-7351 Footprint Added.; DatasheetVersion: Jun-1994; PackageReference: WSO28; Publisher: Altium Limited; PackageDescription: 28-Pin Small Outline Integrated Circuit 1.27 mm Pitch; ComponentLink1Description: Manufacturer Link; ComponentLink1URL: http://www.maxim-ic.com/
footprint WSO28_N (SOIC, 28-Leads, Body 17.9x7.5mm, Pitch 1.27mm, IPC Medium Density)
footprint WSO28_L (SOIC, 28-Leads, Body 17.9x7.5mm, Pitch 1.27mm, IPC High Density)
footprint WSO28_M (SOIC, 28-Leads, Body 17.9x7.5mm, Pitch 1.27mm, IPC Low Density)
3D model WSO28 (28-Pin Small Outline Integrated Circuit 1.27 mm Pitch)
pins: 1 GND (power), 2 IN1A (in), 3 GND (power), 4 IN2A (in), 5 GND (power), 6 IN3A (in), 7 V- (power), 8 IN0B (in), 9 V- (power), 10 IN1B (in), 11 GND (power), 12 IN2B (in), 13 GND (power), 14 IN3B (in), 15 OUT3 (out), 16 V+ (power), 17 OUT2 (out), 18 V+ (power), 19 GND (power), 20 OUT1 (out), 21 V- (power), 22 OUT0 (out), 23 V- (power), 24 ~{CS} (in), 25 A0 (in), 26 ~{EN} (in), 27 LE (in), 28 IN0A (in)

## MAX467CPE
designator U?
Two-Channel, Triple Video Buffer; Published: 16-Jan-2001; LatestRevisionDate: 29-May-2009; LatestRevisionNote: Component Body Added.; DatasheetVersion: Jun-1994; PackageVersion: Aug-2000; PackageReference: PE16; Publisher: Altium Limited; PackageDescription: DIP, 16-Pin, Row Spacing 7.62 mm, Pitch 2.54 mm; Code_JEDEC: MS-001-BB; ComponentLink1Description: Manufacturer Link; ComponentLink1URL: http://www.maxim-ic.com/
footprint PE16 (DIP, 16-Leads, Row Spacing 7.62mm, Pitch 2.54mm, Body 19.18x7.24mm)
3D model PE16 (DIP, 16-Pin, Row Spacing 7.62 mm, Pitch 2.54 mm)
pins: 1 IN0 (in), 2 GND (power), 3 IN1 (in), 4 V- (power), 5 V- (power), 6 IN2 (in), 7 GND (power), 8 GND (power), 9 GND (power), 10 V+ (power), 11 OUT2 (out), 12 V- (power), 13 V- (power), 14 OUT1 (out), 15 GND (power), 16 OUT0 (out)

## MAX467CWE
designator U?
Two-Channel, Triple Video Buffer; Published: 16-Jan-2001; LatestRevisionDate: 13-Apr-2006; LatestRevisionNote: IPC-7351 Footprint Added.; DatasheetVersion: Jun-1994; PackageReference: WSO16; Publisher: Altium Limited; PackageDescription: 16-Pin Small Outline Integrated Circuit 1.27 mm Pitch; Code_JEDEC: MS-013-AA; Code_IPC: SOIC127P1030-16; ComponentLink1Description: Manufacturer Link; ComponentLink1URL: http://www.maxim-ic.com/
footprint WSO16_N (SOIC, 16-Leads, Body 10.3x7.5mm, Pitch 1.27mm, IPC Medium Density)
footprint WSO16_L (SOIC, 16-Leads, Body 10.3x7.5mm, Pitch 1.27mm, IPC High Density)
footprint WSO16_M (SOIC, 16-Leads, Body 10.3x7.5mm, Pitch 1.27mm, IPC Low Density)
3D model WSO16 (16-Pin Small Outline Integrated Circuit 1.27 mm Pitch)
pins: 1 IN0 (in), 2 GND (power), 3 IN1 (in), 4 V- (power), 5 V- (power), 6 IN2 (in), 7 GND (power), 8 GND (power), 9 GND (power), 10 V+ (power), 11 OUT2 (out), 12 V- (power), 13 V- (power), 14 OUT1 (out), 15 GND (power), 16 OUT0 (out)

## MAX467EPE
designator U?
Two-Channel, Triple Video Buffer; Published: 16-Jan-2001; LatestRevisionDate: 29-May-2009; LatestRevisionNote: Component Body Added.; DatasheetVersion: Jun-1994; PackageVersion: Aug-2000; PackageReference: PE16; Publisher: Altium Limited; PackageDescription: DIP, 16-Pin, Row Spacing 7.62 mm, Pitch 2.54 mm; Code_JEDEC: MS-001-BB; ComponentLink1Description: Manufacturer Link; ComponentLink1URL: http://www.maxim-ic.com/
footprint PE16 (DIP, 16-Leads, Row Spacing 7.62mm, Pitch 2.54mm, Body 19.18x7.24mm)
3D model PE16 (DIP, 16-Pin, Row Spacing 7.62 mm, Pitch 2.54 mm)
pins: 1 IN0 (in), 2 GND (power), 3 IN1 (in), 4 V- (power), 5 V- (power), 6 IN2 (in), 7 GND (power), 8 GND (power), 9 GND (power), 10 V+ (power), 11 OUT2 (out), 12 V- (power), 13 V- (power), 14 OUT1 (out), 15 GND (power), 16 OUT0 (out)

## MAX467EWE
designator U?
Two-Channel, Triple Video Buffer; Published: 16-Jan-2001; LatestRevisionDate: 13-Apr-2006; LatestRevisionNote: IPC-7351 Footprint Added.; DatasheetVersion: Jun-1994; PackageReference: WSO16; Publisher: Altium Limited; PackageDescription: 16-Pin Small Outline Integrated Circuit 1.27 mm Pitch; Code_JEDEC: MS-013-AA; Code_IPC: SOIC127P1030-16; ComponentLink1Description: Manufacturer Link; ComponentLink1URL: http://www.maxim-ic.com/
footprint WSO16_N (SOIC, 16-Leads, Body 10.3x7.5mm, Pitch 1.27mm, IPC Medium Density)
footprint WSO16_L (SOIC, 16-Leads, Body 10.3x7.5mm, Pitch 1.27mm, IPC High Density)
footprint WSO16_M (SOIC, 16-Leads, Body 10.3x7.5mm, Pitch 1.27mm, IPC Low Density)
3D model WSO16 (16-Pin Small Outline Integrated Circuit 1.27 mm Pitch)
pins: 1 IN0 (in), 2 GND (power), 3 IN1 (in), 4 V- (power), 5 V- (power), 6 IN2 (in), 7 GND (power), 8 GND (power), 9 GND (power), 10 V+ (power), 11 OUT2 (out), 12 V- (power), 13 V- (power), 14 OUT1 (out), 15 GND (power), 16 OUT0 (out)

## MAX468CPE
designator U?
Two-Channel, Quad Video Buffer; Published: 16-Jan-2001; LatestRevisionDate: 29-May-2009; LatestRevisionNote: Component Body Added.; DatasheetVersion: Jun-1994; PackageVersion: Aug-2000; PackageReference: PE16; Publisher: Altium Limited; PackageDescription: DIP, 16-Pin, Row Spacing 7.62 mm, Pitch 2.54 mm; Code_JEDEC: MS-001-BB; ComponentLink1Description: Manufacturer Link; ComponentLink1URL: http://www.maxim-ic.com/
footprint PE16 (DIP, 16-Leads, Row Spacing 7.62mm, Pitch 2.54mm, Body 19.18x7.24mm)
3D model PE16 (DIP, 16-Pin, Row Spacing 7.62 mm, Pitch 2.54 mm)
pins: 1 IN0 (in), 2 GND (power), 3 IN1 (in), 4 V- (power), 5 V- (power), 6 IN2 (in), 7 GND (power), 8 IN3 (in), 9 OUT3 (out), 10 V+ (power), 11 OUT2 (out), 12 V- (power), 13 V- (power), 14 OUT1 (out), 15 GND (power), 16 OUT0 (out)

## MAX468CWE
designator U?
Two-Channel, Quad Video Buffer; Published: 16-Jan-2001; LatestRevisionDate: 13-Apr-2006; LatestRevisionNote: IPC-7351 Footprint Added.; DatasheetVersion: Jun-1994; PackageReference: WSO16; Publisher: Altium Limited; PackageDescription: 16-Pin Small Outline Integrated Circuit 1.27 mm Pitch; Code_JEDEC: MS-013-AA; Code_IPC: SOIC127P1030-16; ComponentLink1Description: Manufacturer Link; ComponentLink1URL: http://www.maxim-ic.com/
footprint WSO16_N (SOIC, 16-Leads, Body 10.3x7.5mm, Pitch 1.27mm, IPC Medium Density)
footprint WSO16_L (SOIC, 16-Leads, Body 10.3x7.5mm, Pitch 1.27mm, IPC High Density)
footprint WSO16_M (SOIC, 16-Leads, Body 10.3x7.5mm, Pitch 1.27mm, IPC Low Density)
3D model WSO16 (16-Pin Small Outline Integrated Circuit 1.27 mm Pitch)
pins: 1 IN0 (in), 2 GND (power), 3 IN1 (in), 4 V- (power), 5 V- (power), 6 IN2 (in), 7 GND (power), 8 IN3 (in), 9 OUT3 (out), 10 V+ (power), 11 OUT2 (out), 12 V- (power), 13 V- (power), 14 OUT1 (out), 15 GND (power), 16 OUT0 (out)

## MAX468EPE
designator U?
Two-Channel, Quad Video Buffer; Published: 16-Jan-2001; LatestRevisionDate: 29-May-2009; LatestRevisionNote: Component Body Added.; DatasheetVersion: Jun-1994; PackageVersion: Aug-2000; PackageReference: PE16; Publisher: Altium Limited; PackageDescription: DIP, 16-Pin, Row Spacing 7.62 mm, Pitch 2.54 mm; Code_JEDEC: MS-001-BB; ComponentLink1Description: Manufacturer Link; ComponentLink1URL: http://www.maxim-ic.com/
footprint PE16 (DIP, 16-Leads, Row Spacing 7.62mm, Pitch 2.54mm, Body 19.18x7.24mm)
3D model PE16 (DIP, 16-Pin, Row Spacing 7.62 mm, Pitch 2.54 mm)
pins: 1 IN0 (in), 2 GND (power), 3 IN1 (in), 4 V- (power), 5 V- (power), 6 IN2 (in), 7 GND (power), 8 IN3 (in), 9 OUT3 (out), 10 V+ (power), 11 OUT2 (out), 12 V- (power), 13 V- (power), 14 OUT1 (out), 15 GND (power), 16 OUT0 (out)

## MAX468EWE
designator U?
Two-Channel, Quad Video Buffer; Published: 16-Jan-2001; LatestRevisionDate: 13-Apr-2006; LatestRevisionNote: IPC-7351 Footprint Added.; DatasheetVersion: Jun-1994; PackageReference: WSO16; Publisher: Altium Limited; PackageDescription: 16-Pin Small Outline Integrated Circuit 1.27 mm Pitch; Code_JEDEC: MS-013-AA; Code_IPC: SOIC127P1030-16; ComponentLink1Description: Manufacturer Link; ComponentLink1URL: http://www.maxim-ic.com/
footprint WSO16_N (SOIC, 16-Leads, Body 10.3x7.5mm, Pitch 1.27mm, IPC Medium Density)
footprint WSO16_L (SOIC, 16-Leads, Body 10.3x7.5mm, Pitch 1.27mm, IPC High Density)
footprint WSO16_M (SOIC, 16-Leads, Body 10.3x7.5mm, Pitch 1.27mm, IPC Low Density)
3D model WSO16 (16-Pin Small Outline Integrated Circuit 1.27 mm Pitch)
pins: 1 IN0 (in), 2 GND (power), 3 IN1 (in), 4 V- (power), 5 V- (power), 6 IN2 (in), 7 GND (power), 8 IN3 (in), 9 OUT3 (out), 10 V+ (power), 11 OUT2 (out), 12 V- (power), 13 V- (power), 14 OUT1 (out), 15 GND (power), 16 OUT0 (out)

## MAX469CPE
designator U?
Two-Channel, Triple Video Buffer; Published: 16-Jan-2001; LatestRevisionDate: 29-May-2009; LatestRevisionNote: Component Body Added.; DatasheetVersion: Jun-1994; PackageVersion: Aug-2000; PackageReference: PE16; Publisher: Altium Limited; PackageDescription: DIP, 16-Pin, Row Spacing 7.62 mm, Pitch 2.54 mm; Code_JEDEC: MS-001-BB; ComponentLink1Description: Manufacturer Link; ComponentLink1URL: http://www.maxim-ic.com/
footprint PE16 (DIP, 16-Leads, Row Spacing 7.62mm, Pitch 2.54mm, Body 19.18x7.24mm)
3D model PE16 (DIP, 16-Pin, Row Spacing 7.62 mm, Pitch 2.54 mm)
pins: 1 IN0 (in), 2 GND (power), 3 IN1 (in), 4 V- (power), 5 V- (power), 6 IN2 (in), 7 GND (power), 8 GND (power), 9 GND (power), 10 V+ (power), 11 OUT2 (out), 12 V- (power), 13 V- (power), 14 OUT1 (out), 15 GND (power), 16 OUT0 (out)

## MAX469CWE
designator U?
Two-Channel, Triple Video Buffer; Published: 16-Jan-2001; LatestRevisionDate: 13-Apr-2006; LatestRevisionNote: IPC-7351 Footprint Added.; DatasheetVersion: Jun-1994; PackageReference: WSO16; Publisher: Altium Limited; PackageDescription: 16-Pin Small Outline Integrated Circuit 1.27 mm Pitch; Code_JEDEC: MS-013-AA; Code_IPC: SOIC127P1030-16; ComponentLink1Description: Manufacturer Link; ComponentLink1URL: http://www.maxim-ic.com/
footprint WSO16_N (SOIC, 16-Leads, Body 10.3x7.5mm, Pitch 1.27mm, IPC Medium Density)
footprint WSO16_L (SOIC, 16-Leads, Body 10.3x7.5mm, Pitch 1.27mm, IPC High Density)
footprint WSO16_M (SOIC, 16-Leads, Body 10.3x7.5mm, Pitch 1.27mm, IPC Low Density)
3D model WSO16 (16-Pin Small Outline Integrated Circuit 1.27 mm Pitch)
pins: 1 IN0 (in), 2 GND (power), 3 IN1 (in), 4 V- (power), 5 V- (power), 6 IN2 (in), 7 GND (power), 8 GND (power), 9 GND (power), 10 V+ (power), 11 OUT2 (out), 12 V- (power), 13 V- (power), 14 OUT1 (out), 15 GND (power), 16 OUT0 (out)

## MAX469EPE
designator U?
Two-Channel, Triple Video Buffer; Published: 16-Jan-2001; LatestRevisionDate: 29-May-2009; LatestRevisionNote: Component Body Added.; DatasheetVersion: Jun-1994; PackageVersion: Aug-2000; PackageReference: PE16; Publisher: Altium Limited; PackageDescription: DIP, 16-Pin, Row Spacing 7.62 mm, Pitch 2.54 mm; Code_JEDEC: MS-001-BB; ComponentLink1Description: Manufacturer Link; ComponentLink1URL: http://www.maxim-ic.com/
footprint PE16 (DIP, 16-Leads, Row Spacing 7.62mm, Pitch 2.54mm, Body 19.18x7.24mm)
3D model PE16 (DIP, 16-Pin, Row Spacing 7.62 mm, Pitch 2.54 mm)
pins: 1 IN0 (in), 2 GND (power), 3 IN1 (in), 4 V- (power), 5 V- (power), 6 IN2 (in), 7 GND (power), 8 GND (power), 9 GND (power), 10 V+ (power), 11 OUT2 (out), 12 V- (power), 13 V- (power), 14 OUT1 (out), 15 GND (power), 16 OUT0 (out)

## MAX469EWE
designator U?
Two-Channel, Triple Video Buffer; Published: 16-Jan-2001; LatestRevisionDate: 13-Apr-2006; LatestRevisionNote: IPC-7351 Footprint Added.; DatasheetVersion: Jun-1994; PackageReference: WSO16; Publisher: Altium Limited; PackageDescription: 16-Pin Small Outline Integrated Circuit 1.27 mm Pitch; Code_JEDEC: MS-013-AA; Code_IPC: SOIC127P1030-16; ComponentLink1Description: Manufacturer Link; ComponentLink1URL: http://www.maxim-ic.com/
footprint WSO16_N (SOIC, 16-Leads, Body 10.3x7.5mm, Pitch 1.27mm, IPC Medium Density)
footprint WSO16_L (SOIC, 16-Leads, Body 10.3x7.5mm, Pitch 1.27mm, IPC High Density)
footprint WSO16_M (SOIC, 16-Leads, Body 10.3x7.5mm, Pitch 1.27mm, IPC Low Density)
3D model WSO16 (16-Pin Small Outline Integrated Circuit 1.27 mm Pitch)
pins: 1 IN0 (in), 2 GND (power), 3 IN1 (in), 4 V- (power), 5 V- (power), 6 IN2 (in), 7 GND (power), 8 GND (power), 9 GND (power), 10 V+ (power), 11 OUT2 (out), 12 V- (power), 13 V- (power), 14 OUT1 (out), 15 GND (power), 16 OUT0 (out)

## MAX498CWI
designator U?
Quad, SPDT, RGB Switch with 250MHz Video Buffer Amplifier; Published: 16-Jan-2001; LatestRevisionDate: 13-Apr-2006; LatestRevisionNote: IPC-7351 Footprint Added.; DatasheetVersion: Oct-1996; PackageReference: WSO28; Publisher: Altium Limited; PackageDescription: 28-Pin Small Outline Integrated Circuit 1.27 mm Pitch; ComponentLink1Description: Manufacturer Link; ComponentLink1URL: http://www.maxim-ic.com/; ComponentLink2Description: Datasheet; ComponentLink2URL: http://pdfserv.maxim-ic.com/en/ds/MAX498-MAX499.pdf
footprint WSO28_N (SOIC, 28-Leads, Body 17.9x7.5mm, Pitch 1.27mm, IPC Medium Density)
footprint WSO28_L (SOIC, 28-Leads, Body 17.9x7.5mm, Pitch 1.27mm, IPC High Density)
footprint WSO28_M (SOIC, 28-Leads, Body 17.9x7.5mm, Pitch 1.27mm, IPC Low Density)
3D model WSO28 (28-Pin Small Outline Integrated Circuit 1.27 mm Pitch)
pins: 1 GND (power), 2 IN1A (in), 3 GND (power), 4 IN2A (in), 5 GND (power), 6 IN3A (in), 7 VCC (power), 8 IN0B (in), 9 VEE (power), 10 IN1B (in), 11 GND (power), 12 IN2B (in), 13 GND (power), 14 IN3B (in), 15 NC, 16 OUT3 (hiz), 17 NC, 18 OUT2 (hiz), 19 GND (power), 20 OUT1 (hiz), 21 VEE (power), 22 VCC (power), 23 OUT0 (hiz), 24 ~{CS} (in), 25 A0 (in), 26 ~{EN} (in), 27 LE (in), 28 IN0A (in)

## MAX499CWG
designator U?
Triple, SPDT, RGB Switch with 250MHz Video Buffer Amplifier; Published: 16-Jan-2001; LatestRevisionDate: 29-May-2009; LatestRevisionNote: IPC-7351 Footprint Added.; DatasheetVersion: Oct-1996; PackageVersion: 1996; PackageReference: SSOP24; Publisher: Altium Limited; PackageDescription: 24-Pin Small Outline Package 0.65 mm Pitch; Code_JEDEC: MO-150-AG; Code_IPC: SOP65P780-24; ComponentLink1Description: Manufacturer Link; ComponentLink1URL: http://www.maxim-ic.com/; ComponentLink2Description: Datasheet; ComponentLink2URL: http://pdfserv.maxim-ic.com/en/ds/MAX498-MAX499.pdf
footprint SSOP24_N (SOP, 24-Leads, Body 8.2x5.3mm, Pitch 0.65mm, IPC Medium Density)
footprint SSOP24_L (SOP, 24-Leads, Body 8.2x5.3mm, Pitch 0.65mm, IPC High Density)
footprint SSOP24_M (SOP, 24-Leads, Body 8.2x5.3mm, Pitch 0.65mm, IPC Low Density)
3D model SSOP24 (24-Pin Small Outline Package 0.65 mm Pitch)
pins: 1 IN 1A (in), 2 GND (power), 3 IN 2A (in), 4 GND (power), 5 IN 3A (in), 6 VCC (power), 7 VEE (power), 8 IN 1B (in), 9 GND (power), 10 IN 2B (in), 11 GND (power), 12 IN 3B (in), 13 NC, 14 OUT 3 (hiz), 15 NC, 16 OUT 2 (hiz), 17 VEE (power), 18 VCC (power), 19 OUT 1 (hiz), 20 ~{CS} (in), 21 A0 (in), 22 ~{EN} (in), 23 LE (in), 24 GND (power)